# Altium footprint library my_lib.PcbLib: 14 footprints
Each footprint in its own frame and in the unit in brackets; x right, y up, seen from the top. Pads: shape width x height; smd on the part's side, far side on the other; paste and mask are expansions set on the pad; w line width, h text height; cw(c..) or ccw(c..) is an arc to the next point about the centre after c.
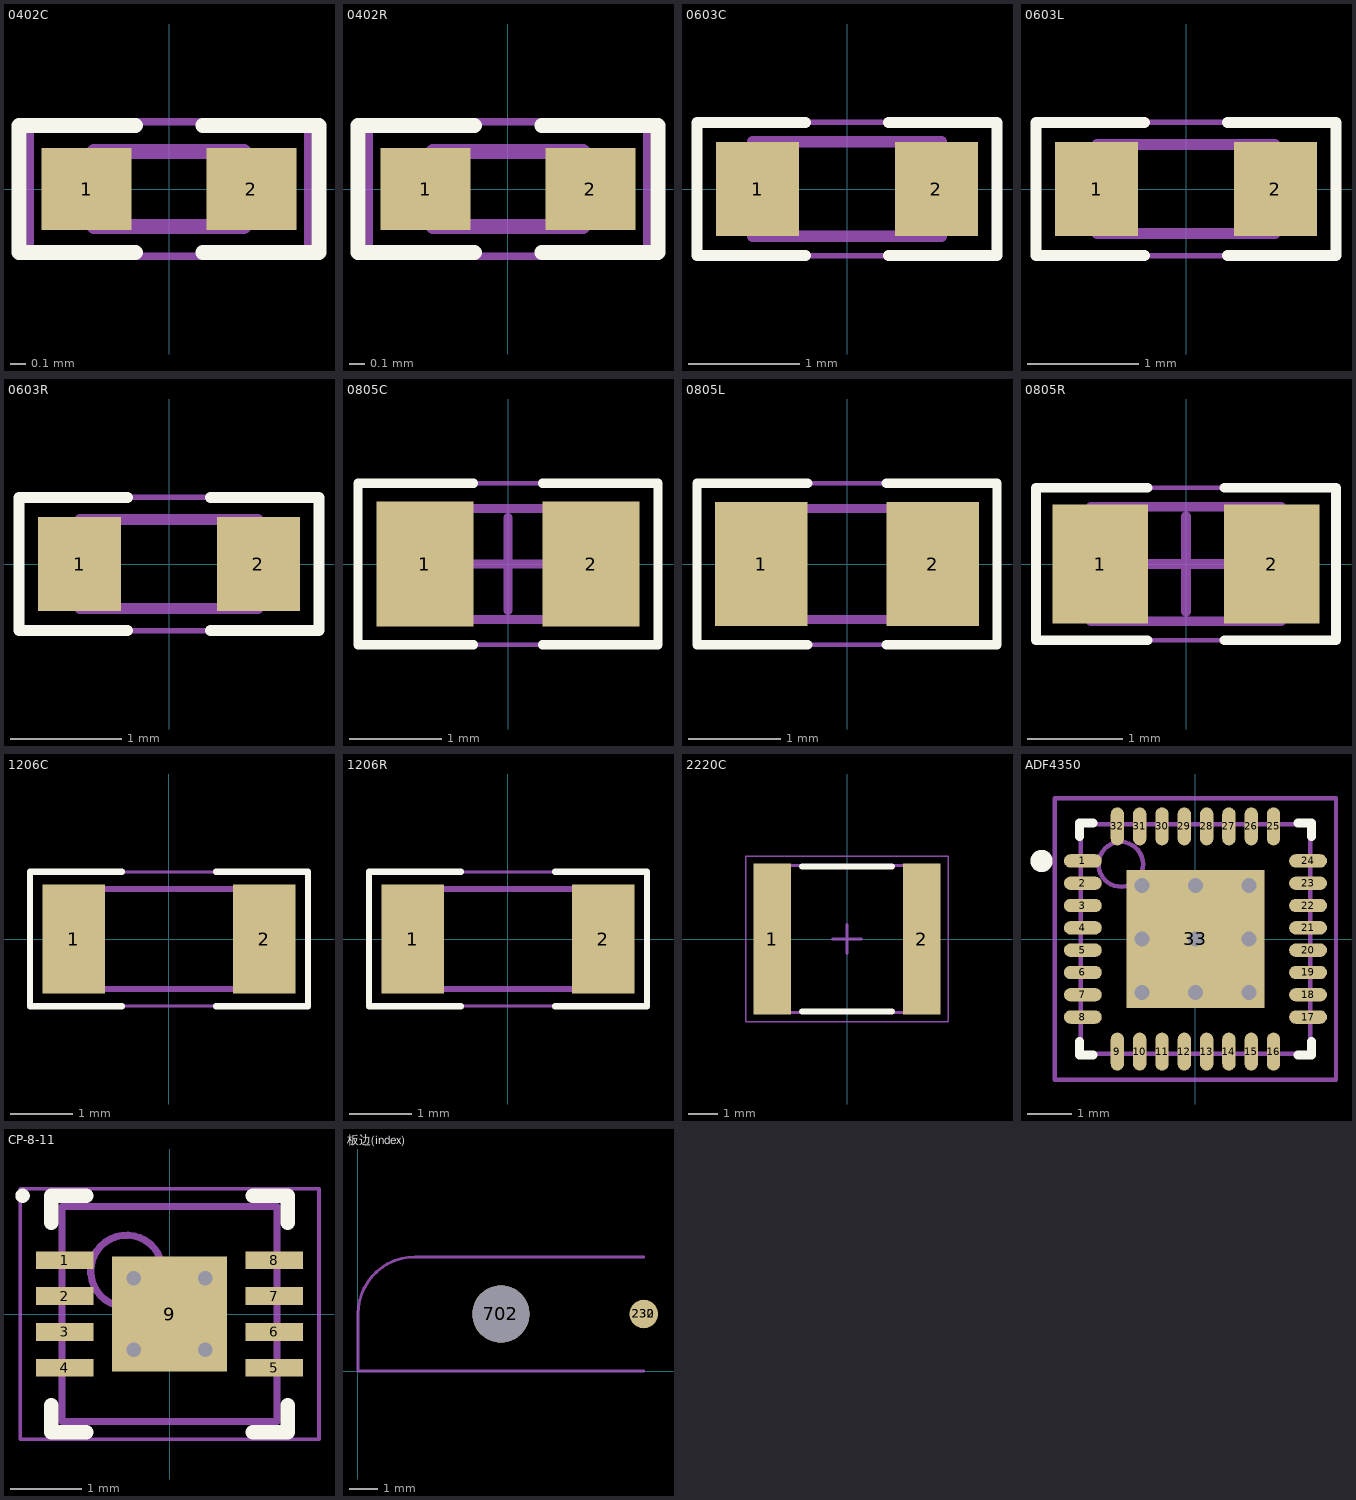
[diagram p0: the footprints below, top view; thin cyan lines are the x and y axes]

## 0402C [mm] "Chip Capacitor, 2-Leads, Body 1.00x0.50mm, IPC Medium Density"
height 0.5
pads (2):
  rect 0.6x0.55 smd: 1(-0.55,0) 2(0.55,0)
Top Overlay:
  lines w0.1: -0.225,-0.425 -1,-0.425 -1,0.425 -0.225,0.425 ; 0.225,-0.425 1,-0.425 1,0.425 0.225,0.425
Mechanical 13:
  lines w0.1: -0.5,-0.25 0.5,-0.25 0.5,0.25 -0.5,0.25 -0.5,-0.25
Mechanical 15:
  lines w0.05: -0.925,-0.45 0.925,-0.45 0.925,0.45 -0.925,0.45 -0.925,-0.45
Mechanical 17:
  text ".comment" at -0.84,-0.165 h0.7
Mechanical 19:
  text ".designator" at -0.84,-0.165 h0.7
3D body "User Library-C0402-1.step": height 0.5, standoff 0, extent -0.498,-0.25 0.498,0.25

## 0402R [mm] "Chip Resistor, 2-Leads, Body 1.00x0.50mm, IPC Medium Density"
height 0.5
pads (2):
  rect 0.6x0.55 smd: 1(-0.55,0) 2(0.55,0)
Top Overlay:
  lines w0.1: -0.225,-0.425 -1,-0.425 -1,0.425 -0.225,0.425 ; 0.225,-0.425 1,-0.425 1,0.425 0.225,0.425
Mechanical 13:
  lines w0.1: -0.5,-0.25 0.5,-0.25 0.5,0.25 -0.5,0.25 -0.5,-0.25
Mechanical 15:
  lines w0.05: -0.925,-0.45 0.925,-0.45 0.925,0.45 -0.925,0.45 -0.925,-0.45
Mechanical 17:
  text ".comment" at -0.84,-0.165 h0.7
Mechanical 19:
  text ".designator" at -0.84,-0.165 h0.7
3D body "User Library-C0402-1.step": height 0.5, standoff 0, extent -0.498,-0.25 0.498,0.25

## 0603C [mm] "Chip Capacitor, 2-Leads, Body 1.60x0.80mm, IPC Medium Density"
height 0.5
pads (2):
  rect 0.75x0.85 smd: 1(-0.805,0) 2(0.805,0)
Top Overlay:
  lines w0.1: -0.375,-0.6 -1.35,-0.6 -1.35,0.6 -0.375,0.6 ; 0.375,-0.6 1.35,-0.6 1.35,0.6 0.375,0.6
Mechanical 13:
  lines w0.1: -0.85,-0.425 -0.85,0.425 0.85,0.425 0.85,-0.425 -0.85,-0.425
Mechanical 15:
  lines w0.05: -1.35,-0.6 1.35,-0.6 1.35,0.6 -1.35,0.6 -1.35,-0.6
Mechanical 17:
  text ".comment" at -1.24,-0.245 h1.1
Mechanical 19:
  text ".designator" at -1.24,-0.245 h1.1
3D body "User Library-C0603-2.step": height 0.8, standoff 0, extent -0.8,-0.4 0.8,0.4

## 0603L [mm] "Chip Inductor, 2-Leads, Body 1.60x0.80mm, IPC Medium Density"
height 0.5
pads (2):
  rect 0.75x0.85 smd: 1(-0.805,0) 2(0.805,0)
Top Overlay:
  lines w0.1: -0.375,-0.6 -1.35,-0.6 -1.35,0.6 -0.375,0.6 ; 0.375,-0.6 1.35,-0.6 1.35,0.6 0.375,0.6
Mechanical 13:
  lines w0.1: -0.8,-0.4 0.8,-0.4 0.8,0.4 -0.8,0.4 -0.8,-0.4
Mechanical 15:
  lines w0.05: -1.35,-0.6 1.35,-0.6 1.35,0.6 -1.35,0.6 -1.35,-0.6
Mechanical 17:
  text ".comment" at -1.23,-0.245 h1.1
Mechanical 19:
  text ".designator" at -1.23,-0.245 h1.1
3D body "User Library-SLF_0603.step": height 1, standoff -0.02, extent -0.9,-0.56 0.9,0.56

## 0603R [mm] "Chip Resistor, 2-Leads, Body 1.60x0.80mm, IPC Medium Density"
height 0.5
pads (2):
  rect 0.75x0.85 smd: 1(-0.805,0) 2(0.805,0)
Top Overlay:
  lines w0.1: -0.375,-0.6 -1.35,-0.6 -1.35,0.6 -0.375,0.6 ; 0.375,-0.6 1.35,-0.6 1.35,0.6 0.375,0.6
Mechanical 13:
  lines w0.1: -0.8,-0.4 0.8,-0.4 0.8,0.4 -0.8,0.4 -0.8,-0.4
Mechanical 15:
  lines w0.05: -1.35,-0.6 -1.35,0.6 1.35,0.6 1.35,-0.6 -1.35,-0.6
Mechanical 17:
  text ".comment" at -1.23,-0.245 h1.1
Mechanical 19:
  text ".designator" at -1.23,-0.245 h1.1
3D body "User Library-R0603-1.step": height 0.45, standoff 0, extent -0.95,-0.4 0.95,0.4

## 0805C [mm] "Chip Capacitor, 2-Leads, Body 2.00x1.20mm, IPC Medium Density"
height 1.2
pads (2):
  rect 1.05x1.35 smd: 1(-0.9,0) 2(0.9,0)
Top Overlay:
  lines w0.1: -0.375,-0.875 -1.625,-0.875 -1.625,0.875 -0.375,0.875 ; 0.375,-0.875 1.625,-0.875 1.625,0.875 0.375,0.875
Mechanical 13:
  lines w0.1: -1,-0.6 1,-0.6 1,0.6 -1,0.6 -1,-0.6
Mechanical 15:
  lines w0.05: -1.625,-0.875 1.625,-0.875 1.625,0.875 -1.625,0.875 -1.625,-0.875
  lines w0.1: -0.5,0 0.5,0 ; 0,-0.5 0,0.5
Mechanical 17:
  text ".comment" at -1.495,-0.245 h1.1
Mechanical 19:
  text ".designator" at -1.495,-0.245 h1.1
3D body "User Library-C0805-2.step": height 0.8, standoff 0, extent -1,-0.625 1,0.625

## 0805L [mm] "Chip Inductor, 2-Leads, Body 2.00x1.20mm, IPC Medium Density"
height 0.5
pads (2):
  rect 1x1.34 smd: 1(-0.93,0) 2(0.93,0)
Top Overlay:
  lines w0.1: -0.425,-0.875 -1.625,-0.875 -1.625,0.875 -0.425,0.875 ; 0.425,-0.875 1.625,-0.875 1.625,0.875 0.425,0.875
Mechanical 13:
  lines w0.1: -1,-0.6 -1,0.6 1,0.6 1,-0.6 -1,-0.6
Mechanical 15:
  lines w0.05: -1.625,-0.875 -1.625,0.875 1.625,0.875 1.625,-0.875 -1.625,-0.875
Mechanical 17:
  text ".comment" at -1.495,-0.255 h1.1
Mechanical 19:
  text ".designator" at -1.495,-0.255 h1.1
3D body: height 0.5, standoff 0, extent -0.55,-0.6 0.55,0.6
3D body: height 0.5, standoff 0, extent -1,-0.6 -0.55,0.6
3D body: height 0.5, standoff 0, extent 0.55,-0.6 1,0.6

## 0805R [mm] "Chip Resistor, 2-Leads, Body 2.00x1.20mm, IPC Medium Density"
height 0.5
pads (2):
  rect 1x1.25 smd: 1(-0.9,0) 2(0.9,0)
Top Overlay:
  lines w0.1: -0.4,-0.8 -1.575,-0.8 -1.575,0.8 -0.4,0.8 ; 0.4,-0.8 1.575,-0.8 1.575,0.8 0.4,0.8
Mechanical 13:
  lines w0.1: -1,-0.6 -1,0.6 1,0.6 1,-0.6 -1,-0.6
Mechanical 15:
  lines w0.05: -1.575,-0.8 -1.575,0.8 1.575,0.8 1.575,-0.8 -1.575,-0.8
  lines w0.1: -0.5,0 0.5,0 ; 0,-0.5 0,0.5
Mechanical 17:
  text ".comment" at -1.45,-0.255 h1.1
Mechanical 19:
  text ".designator" at -1.45,-0.255 h1.1
3D body: height 1, standoff -0.02, extent -0.25,0.3 -0.25,0.3
3D body "User Library-R0805-2.step": height 0.55, standoff 0, extent -1.2,-0.625 1.2,0.625

## 1206C [mm] "Chip Capacitor, 2-Leads, Body 3.20x1.60mm, IPC Medium Density"
height 1.6
pads (2):
  rect 1x1.75 smd: 1(-1.525,0) 2(1.525,0)
Top Overlay:
  lines w0.1: -0.75,-1.075 -2.225,-1.075 -2.225,1.075 -0.75,1.075 ; 0.75,-1.075 2.225,-1.075 2.225,1.075 0.75,1.075
Mechanical 13:
  lines w0.1: -1.6,-0.8 1.6,-0.8 1.6,0.8 -1.6,0.8 -1.6,-0.8
Mechanical 15:
  lines w0.05: -2.225,-1.075 2.225,-1.075 2.225,1.075 -2.225,1.075 -2.225,-1.075
Mechanical 17:
  text ".comment" at -1.905,-0.255 h1.1
Mechanical 19:
  text ".designator" at -1.905,-0.255 h1.1
3D body "Capacitor 1206 SMD.step": height 0.95, standoff -0.01, extent -2.077,-0.894 2.123,0.906

## 1206R [mm] "Chip Resistor, 2-Leads, Body 3.20x1.60mm, IPC Medium Density"
height 0.6
pads (2):
  rect 1x1.75 smd: 1(-1.525,0) 2(1.525,0)
Top Overlay:
  lines w0.1: -0.75,-1.075 -2.225,-1.075 -2.225,1.075 -0.75,1.075 ; 0.75,-1.075 2.225,-1.075 2.225,1.075 0.75,1.075
Mechanical 13:
  lines w0.1: -1.6,-0.8 1.6,-0.8 1.6,0.8 -1.6,0.8 -1.6,-0.8
Mechanical 15:
  lines w0.05: -2.225,-1.075 2.225,-1.075 2.225,1.075 -2.225,1.075 -2.225,-1.075
Mechanical 17:
  text ".comment" at -1.645,-0.255 h1.1
Mechanical 19:
  text ".designator" at -1.645,-0.255 h1.1
3D body "User Library-R1206-1.step": height 0.55, standoff 0, extent -1.8,-0.8 1.8,0.8

## 2220C [mm] "Chip Capacitor, 2-Leads, Body 5.59x5.08mm, IPC Medium Density"
height 2.5
pads (2):
  rect 1.3x5.2 smd: 1(-2.575,0) 2(2.575,0)
Top Overlay:
  lines w0.2: -1.55,-2.5 1.55,-2.5 ; -1.55,2.5 1.55,2.5
Mechanical 13:
  lines w0.1: -2.795,-2.54 2.795,-2.54 2.795,2.54 -2.795,2.54 -2.795,-2.54
Mechanical 15:
  lines w0.05: -3.5,-2.85 3.5,-2.85 3.5,2.85 -3.5,2.85 -3.5,-2.85
  lines w0.1: -0.5,0 0.5,0 ; 0,-0.5 0,0.5
Mechanical 17:
  text ".comment" at -2.745,-0.325 h1.5
Mechanical 19:
  text ".designator" at -2.745,-0.325 h1.5
3D body "CAPC5651X25N.step": height 2.5, standoff 0, extent -2.795,-2.54 2.795,2.54

## ADF4350 [mm]
pads (33):
  oval 0.85x0.3 smd: 1(-2.525,1.75) 2(-2.525,1.25) 3(-2.525,0.75) 4(-2.525,0.25) 5(-2.525,-0.25) 6(-2.525,-0.75) 7(-2.525,-1.25) 8(-2.525,-1.75) 17(2.525,-1.75) 18(2.525,-1.25) 19(2.525,-0.75) 20(2.525,-0.25) 21(2.525,0.25) 22(2.525,0.75) 23(2.525,1.25) 24(2.525,1.75)
  oval 0.3x0.85 smd: 9(-1.75,-2.525) 10(-1.25,-2.525) 11(-0.75,-2.525) 12(-0.25,-2.525) 13(0.25,-2.525) 14(0.75,-2.525) 15(1.25,-2.525) 16(1.75,-2.525) 25(1.75,2.525) 26(1.25,2.525) 27(0.75,2.525) 28(0.25,2.525) 29(-0.25,2.525) 30(-0.75,2.525) 31(-1.25,2.525) 32(-1.75,2.525)
  rect 3.1x3.1 smd: 33(0,0)
via 1.2,-1.2 diameter 0.66 hole 0.33
via 0,-1.2 diameter 0.66 hole 0.33
via -1.2,-1.2 diameter 0.66 hole 0.33
via 1.2,0 diameter 0.6 hole 0.33
via 0,0 diameter 0.66 hole 0.33
via -1.2,0 diameter 0.66 hole 0.33
via 1.2,1.2 diameter 0.66 hole 0.33
via 0,1.2 diameter 0.66 hole 0.33
via -1.2,1.2 diameter 0.66 hole 0.33
Top Overlay:
  circle w0.25: c-3.45,1.75 r0.125
  lines w0.2: -2.6,-2.3 -2.6,-2.6 -2.3,-2.6 ; -2.6,2.3 -2.6,2.6 -2.3,2.6 ; 2.3,-2.6 2.6,-2.6 2.6,-2.3 ; 2.3,2.6 2.6,2.6 2.6,2.3
Mechanical 13:
  circle w0.1: c-1.675,1.675 r0.5
  lines w0.1: -2.575,-2.575 2.575,-2.575 2.575,2.575 -2.575,2.575 -2.575,-2.575
Mechanical 15:
  lines w0.1: -0.5,0 0.5,0 ; 0,-0.5 0,0.5 ; -3.15,-3.15 3.15,-3.15 3.15,3.15 -3.15,3.15 -3.15,-3.15
3D body: height 1, standoff 0, extent -2.575,-2.575 2.575,2.575

## CP-8-11 [mm] "ADM7150"
height 0.8
pads (9):
  rect 0.8x0.25 smd: 1(-1.46,0.75) 2(-1.46,0.25) 3(-1.46,-0.25) 4(-1.46,-0.75) 5(1.46,-0.75) 6(1.46,-0.25) 7(1.46,0.25) 8(1.46,0.75)
  rect 1.6x1.6 smd: 9(0,0)
via -0.5,0.5 diameter 0.5 hole 0.2
via 0.5,0.5 diameter 0.5 hole 0.2
via -0.5,-0.5 diameter 0.5 hole 0.2
via 0.5,-0.5 diameter 0.5 hole 0.2
Top Overlay:
  circle w0.1: c-2.05,1.65 r0.05
  lines w0.2: -1.65,-1.275 -1.65,-1.65 -1.16,-1.65 ; -1.65,1.275 -1.65,1.65 -1.16,1.65 ; 1.16,-1.65 1.65,-1.65 1.65,-1.275 ; 1.16,1.65 1.65,1.65 1.65,1.275
Assembly Top (Mech8):
  circle w0.1: c-0.6,0.6 r0.5
  lines w0.1: -1.5,-1.5 -1.5,1.5 1.5,1.5 1.5,-1.5 -1.5,-1.5
Courtyard Top (Mech10):
  lines w0.05: -2.085,-1.75 -2.085,1.75 2.085,1.75 2.085,-1.75 -2.085,-1.75
  lines w0.1: -0.5,0 0.5,0 ; 0,-0.5 0,0.5
3D body: height 0.8, standoff 0.1, extent -1.5,-1.5 1.5,1.5

## 板边(index) [mm]
pads (3):
  round 1 smd: 230(10,2)
  round 1 all layers, no hole: 232(10,2)
  round 2 hole 2 unplated: 702(5,2)
Mechanical 1:
  lines w0.1: 10,0 0,0 0,2 cw(c2,2) 2,4 10,4